# EAGLE library part S12B-XH (library con-JST)
JST XH series header 2.50mm pitch disconnectable crimp style connectors, horizontal (side entry type), 12 pins
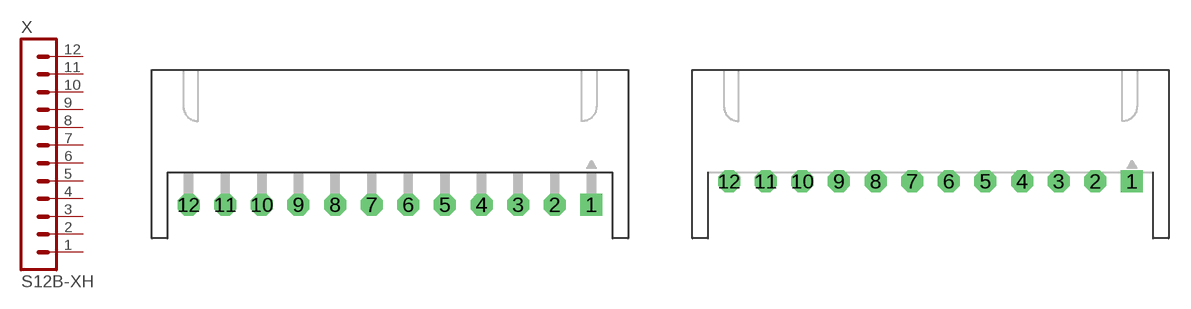
[diagram p18: symbol with the pads of S12B-XH-A; footprints S12B-XH-A, S12B-XH-A-1]

Designator prefix X

## S12B-XH-A  [S12B-XH-A]
1  1  pas
2  2  pas
3  3  pas
4  4  pas
5  5  pas
6  6  pas
7  7  pas
8  8  pas
9  9  pas
10  10  pas
11  11  pas
12  12  pas

## S12B-XH-A-1  [S12B-XH-A-1]
Pads as for S12B-XH-A

## Footprint S12B-XH-A (pad centres in mm)
JST XH series header 2.50mm pitch disconnectable crimp style connectors, horizontal (side entry type), 12 pins
drill 0.9 pad 1.5 square: 1 13.75,0
drill 0.9 pad 1.5 octagon: 2 11.25,0; 3 8.75,0; 4 6.25,0; 5 3.75,0; 6 1.25,0; 7 -1.25,0; 8 -3.75,0; 9 -6.25,0; 10 -8.75,0; 11 -11.25,0; 12 -13.75,0

## Footprint S12B-XH-A-1 (pad centres in mm)
JST XH series header 2.50mm pitch disconnectable crimp style connectors, horizontal (side entry type), 12 pins
drill 0.9 pad 1.5 square: 1 13.75,0
drill 0.9 pad 1.5 octagon: 2 11.25,0; 3 8.75,0; 4 6.25,0; 5 3.75,0; 6 1.25,0; 7 -1.25,0; 8 -3.75,0; 9 -6.25,0; 10 -8.75,0; 11 -11.25,0; 12 -13.75,0